# EAGLE library part DF12D-3.0-60 (library usb_con-update)
60 pin connector PN: DF12D(3.0)-60DP-0.5V Source: con-hirose-df12d(3.0)60dp0.5v80.lbr from Bob Starr <rtzaudio@mindspring.com>
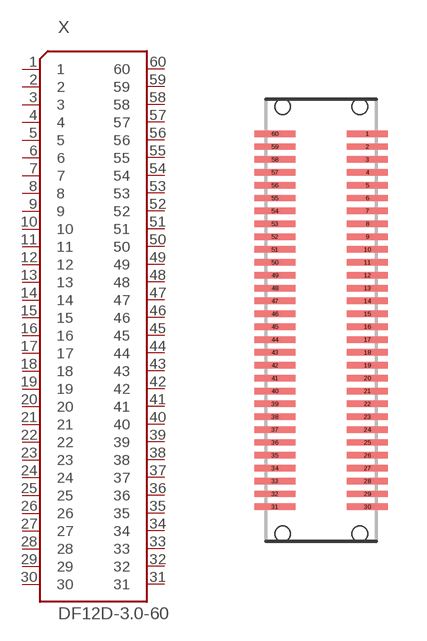
[diagram p33: symbol with the pads of DF12-3.0-60; footprint DF12-3.0-60]

Designator prefix X

## DF12D-3.0-60  [DF12-3.0-60]
1  1
2  2
3  3
4  4
5  5
6  6
7  7
8  8
9  9
10  10
11  11
12  12
13  13
14  14
15  15
16  16
17  17
18  18
19  19
20  20
21  21
22  22
23  23
24  24
25  25
26  26
27  27
28  28
29  29
30  30
31  31
32  32
33  33
34  34
35  35
36  36
37  37
38  38
39  39
40  40
41  41
42  42
43  43
44  44
45  45
46  46
47  47
48  48
49  49
50  50
51  51
52  52
53  53
54  54
55  55
56  56
57  57
58  58
59  59
60  60

## Footprint DF12-3.0-60 (pad centres in mm)
60 pin connector PN: DF12D(3.0)-60DP-0.5V Hirose Electric Co.
smd 1.6 x 0.25: 1 1.8,7.25; 2 1.8,6.75; 3 1.8,6.25; 4 1.8,5.75; 5 1.8,5.25; 6 1.8,4.75; 7 1.8,4.25; 8 1.8,3.75; 9 1.8,3.25; 10 1.8,2.75; 11 1.8,2.25; 12 1.8,1.75; 13 1.8,1.25; 14 1.8,0.75; 15 1.8,0.25; 16 1.8,-0.25; 17 1.8,-0.75; 18 1.8,-1.25; 19 1.8,-1.75; 20 1.8,-2.25; 21 1.8,-2.75; 22 1.8,-3.25; 23 1.8,-3.75; 24 1.8,-4.25; 25 1.8,-4.75; 26 1.8,-5.25; 27 1.8,-5.75; 28 1.8,-6.25; 29 1.8,-6.75; 30 1.8,-7.25; 31 -1.8,-7.25; 32 -1.8,-6.75; 33 -1.8,-6.25; 34 -1.8,-5.75; 35 -1.8,-5.25; 36 -1.8,-4.75; 37 -1.8,-4.25; 38 -1.8,-3.75; 39 -1.8,-3.25; 40 -1.8,-2.75; 41 -1.8,-2.25; 42 -1.8,-1.75; 43 -1.8,-1.25; 44 -1.8,-0.75; 45 -1.8,-0.25; 46 -1.8,0.25; 47 -1.8,0.75; 48 -1.8,1.25; 49 -1.8,1.75; 50 -1.8,2.25; 51 -1.8,2.75; 52 -1.8,3.25; 53 -1.8,3.75; 54 -1.8,4.25; 55 -1.8,4.75; 56 -1.8,5.25; 57 -1.8,5.75; 58 -1.8,6.25; 59 -1.8,6.75; 60 -1.8,7.25
hole 0.6 at -1.5,8.3
hole 0.6 at 1.5,8.3
hole 0.6 at 1.5,-8.3
hole 0.6 at -1.5,-8.3